# Altium footprint library TFT-S95517.PcbLib: 1 footprints
Each footprint in its own frame and in the unit in brackets; x right, y up, seen from the top. Pads: shape width x height; smd on the part's side, far side on the other; paste and mask are expansions set on the pad; w line width, h text height; cw(c..) or ccw(c..) is an arc to the next point about the centre after c.
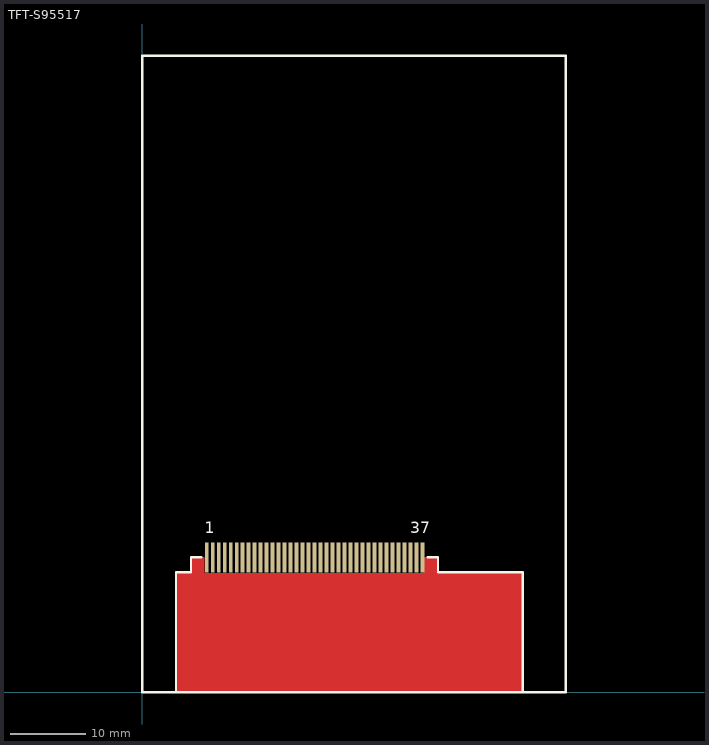
[diagram p0: the footprint, top view; thin cyan lines are the x and y axes]

## TFT-S95517 [mm] "TFT S95517-AAA 56.54(L) x 84.96 (W) x2.35(T)"
height 0.06
pads (37):
  rect 0.5x4 smd: 1(8.6,18) 2(9.4,18) 3(10.2,18) 4(11,18) 5(11.8,18) 6(12.6,18) 7(13.4,18) 8(14.2,18) 9(15,18) 10(15.8,18) 11(16.6,18) 12(17.4,18) 13(18.2,18) 14(19,18) 15(19.8,18) 16(20.6,18) 17(21.4,18) 18(22.2,18) 19(23,18) 20(23.8,18) 21(24.6,18) 22(25.4,18) 23(26.2,18) 24(27,18) 25(27.8,18) 26(28.6,18) 27(29.4,18) 28(30.2,18) 29(31,18) 30(31.8,18) 31(32.6,18) 32(33.4,18) 33(34.2,18) 34(35,18) 35(35.8,18) 36(36.6,18) 37(37.4,18)
Top Layer:
  pour cut-out: 4.5,0 4.5,16 6.5,16 6.5,18 8.27,18 8.27,15.936 8.331,15.875 37.541,15.875 37.668,16.002 37.668,17.938 37.73,18 39.5,18 39.5,16 50.8,16 50.8,0
Top Overlay:
  lines w0.3: 4.5,0 4.5,16 6.5,16 6.5,18 7.869,18 ; 38.131,18 39.5,18 39.5,16 50.8,16 50.8,0 ; 0,0 0,84.96 56.54,84.96 56.54,0 0,0
  text "1" at 8.331,21.209 h1.52
  text "37" at 35.763,21.209 h1.52